# EAGLE library part 82400102 (library MCU_Print_V2)
ESD Suppressors / TVS Diodes WE-TVS High Speed 5uA, 5VDC, 2 channel, Mouser : 710-82400102
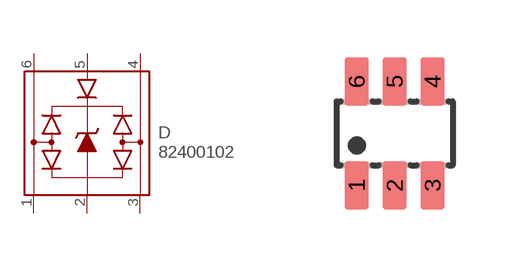
[diagram p8: symbol with the pads of SOT23-6; footprint SOT23-6]

Designator prefix D

## 82400102 (BRAND: Wurth Electronics; BREAKDOWN_VOLTAGE: 6V; CASE: SOT-23-6; CLAMPING_VOLTAGE: 7,7V; CURRENT_PEAK_PULSE: 6A (8/20µs); DIGI-KEY: 732-4473-1-ND; DIODE_CAPACITANCE: 2pF; DISTRELEC: 110-64-085; FARNELL: 1825875; MOUSER: 710-82400102; NUMBER_OF_CHANNELS: 2; OPERATING_VOLTAGE: -40°C ~ 125°C (TJ); PRODUCT_CATEGORY: ESD Suppressors / TVS Diodes; WORKING_VOLTAGE: 5V)  [SOT23-6]
1  I/O1_1
2  GND  pas
3  I/O2_1  pas
4  I/O2_2  pas
5  VDD  pas
6  I/O1_2

## Footprint SOT23-6 (pad centres in mm)
Case SOT23-6 (TSOP6) => l x p x h / 2.9 x 1.6 x 1.1 to 1.5 mm )
smd 0.6 x 1.2: 1 -0.95,-1.3; 2 0,-1.3; 3 0.95,-1.3; 4 0.95,1.3; 5 0,1.3; 6 -0.95,1.3